# EAGLE library part ICE40LP384-CM49 (library IC_Embedded)
iCE40™ LP Field Programmable Gate Array (FPGA) IC 37 384 49-VFBGA Datasheet <https://www.latticesemi.com/en/Products/FPGAandCPLD/iCE40#_21E33C7EC0BD48AA80FE384ED73CC895>
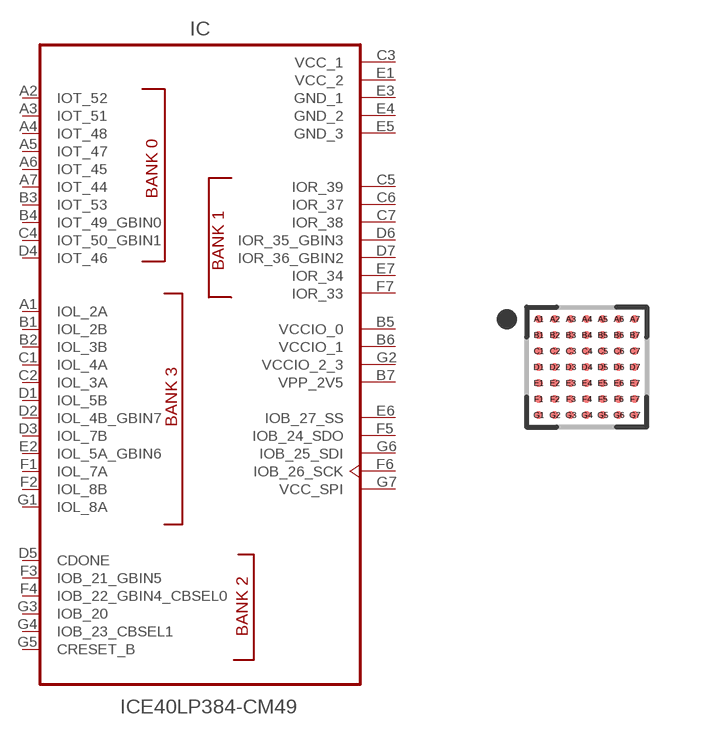
[diagram p4: symbol with the pads of BGA49N40P7X7_300X300X100_CUST; footprint BGA49N40P7X7_300X300X100_CUST]

Designator prefix IC

## ICE40LP384-CM49TR (CATEGORY: Integrated Circuits (ICs) Embedded - FPGAs (Field Programmable Gate Array); DESCRIPTION: FPGA - Field Programmable Gate Array iCE40LP Ultra LowPwr 384 LUTs 1.2V; MANUFACTURER: Lattice Semiconductor Corporation; MPN: ICE40LP384-CM49TR; OPERATING_TEMPERATURE: -40 C to +100 C; PART_STATUS: ACTIVE; ROHS_COMPLIANT: COMPLIANT; SERIES: iCE40LP; SUB_CATEGORY: FPGA; TYPE: FPGA - Field Programmable Gate Array; VALUE: ICE40)  [BGA49N40P7X7_300X300X100_CUST]
A1  IOL_2A
A2  IOT_52
A3  IOT_51
A4  IOT_48
A5  IOT_47
A6  IOT_45
A7  IOT_44
B1  IOL_2B
B2  IOL_3B
B3  IOT_53
B4  IOT_49_GBIN0
B5  VCCIO_0  pwr
B6  VCCIO_1  pwr
B7  VPP_2V5  pwr
C1  IOL_4A
C2  IOL_3A
C3  VCC_1  pwr
C4  IOT_50_GBIN1
C5  IOR_39  in
C6  IOR_37
C7  IOR_38
D1  IOL_5B
D2  IOL_4B_GBIN7
D3  IOL_7B
D4  IOT_46
D5  CDONE
D6  IOR_35_GBIN3
D7  IOR_36_GBIN2
E1  VCC_2  pwr
E2  IOL_5A_GBIN6
E3  GND_1  pwr
E4  GND_2  pwr
E5  GND_3  pwr
E6  IOB_27_SS
E7  IOR_34
F1  IOL_7A
F2  IOL_8B
F3  IOB_21_GBIN5
F4  IOB_22_GBIN4_CBSEL0
F5  IOB_24_SDO
F6  IOB_26_SCK
F7  IOR_33
G1  IOL_8A
G2  VCCIO_2_3  pwr
G3  IOB_20
G4  IOB_23_CBSEL1
G5  CRESET_B  in
G6  IOB_25_SDI  in
G7  VCC_SPI  pwr

## Footprint BGA49N40P7X7_300X300X100_CUST (pad centres in mm)
49-BGA, non-collapsing, 0.40 mm pitch, 3.00 X 3.00 X 1.00 mm body 49-pin non-collapsing BGA package with 0.40 mm col pitch and 0.40 mm row pitch with body size 3.00 X 3.00 X 1.00 mm
smd 0.2 x 0.2: A1 -1.2,1.2; A2 -0.8,1.2; A3 -0.4,1.2; A4 0,1.2; A5 0.4,1.2; A6 0.8,1.2; A7 1.2,1.2; B1 -1.2,0.8; B2 -0.8,0.8; B3 -0.4,0.8; B4 0,0.8; B5 0.4,0.8; B6 0.8,0.8; B7 1.2,0.8; C1 -1.2,0.4; C2 -0.8,0.4; C3 -0.4,0.4; C4 0,0.4; C5 0.4,0.4; C6 0.8,0.4; C7 1.2,0.4; D1 -1.2,0; D2 -0.8,0; D3 -0.4,0; D4 0,0; D5 0.4,0; D6 0.8,0; D7 1.2,0; E1 -1.2,-0.4; E2 -0.8,-0.4; E3 -0.4,-0.4; E4 0,-0.4; E5 0.4,-0.4; E6 0.8,-0.4; E7 1.2,-0.4; F1 -1.2,-0.8; F2 -0.8,-0.8; F3 -0.4,-0.8; F4 0,-0.8; F5 0.4,-0.8; F6 0.8,-0.8; F7 1.2,-0.8; G1 -1.2,-1.2; G2 -0.8,-1.2; G3 -0.4,-1.2; G4 0,-1.2; G5 0.4,-1.2; G6 0.8,-1.2; G7 1.2,-1.2